# EAGLE library part 615008150421 (library USB_c_conn)
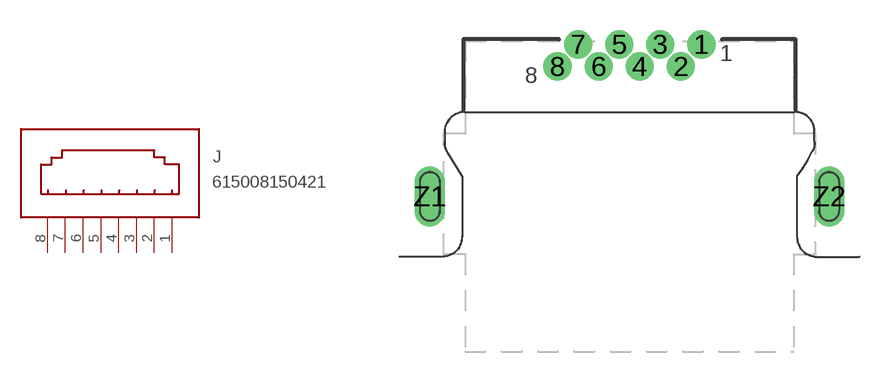
[diagram p189: symbol with the pads of 615008150421; footprint 615008150421]

Designator prefix J

## 615008150421  [615008150421]
1  1  pas
2  2  pas
3  3  pas
4  4  pas
5  5  pas
6  6  pas
7  7  pas
8  8  pas

## Footprint 615008150421 (pad centres in mm)
drill 0.9: 1 3.57,0.55; 2 2.55,-0.55; 3 1.53,0.55; 4 0.51,-0.55; 5 -0.51,0.55; 6 -1.53,-0.55; 7 -2.55,0.55; 8 -3.57,-0.55
drill 1 long: Z1 -9.92,-7.02; Z2 9.92,-7.02